# Altium footprint library PcbLib2.PcbLib: 18 footprints (part 2 of 2)
Each footprint in its own frame and in the unit in brackets; x right, y up, seen from the top. Pads: shape width x height; smd on the part's side, far side on the other; paste and mask are expansions set on the pad; w line width, h text height; cw(c..) or ccw(c..) is an arc to the next point about the centre after c.
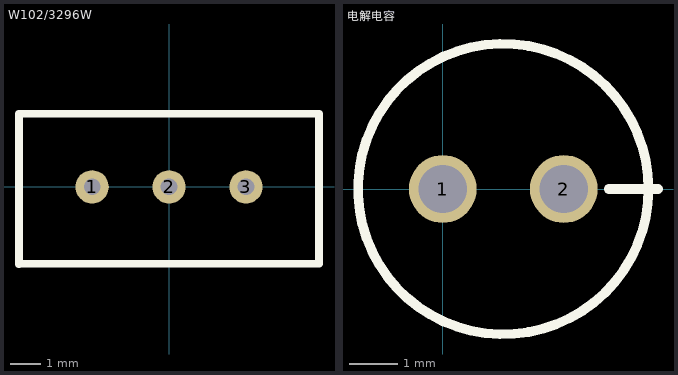
[diagram p1: the footprints below, top view; thin cyan lines are the x and y axes]

## W102/3296W [mm]
pads (3):
  round 1.1 hole 0.55: 1(-2.54,0) 2(0,0) 3(2.54,0)
Top Overlay:
  lines w0.254: -4.953,-2.55 -4.953,0 ; -4.953,-2.54 4.947,-2.54 ; -4.953,-0.01 -4.953,2.4 ; -4.95,2.41 4.95,2.41 4.95,0 ; 4.95,-2.54 4.95,0.01

## 电解电容 [mm]
pads (2):
  round 1.4 hole 1: 1(0,0) 2(2.5,0)
Top Overlay:
  circle w0.2: c1.25,0 r3
  lines w0.2: 3.429,0 4.445,0